# EAGLE library part SI4721 (library SparkFun-RF)
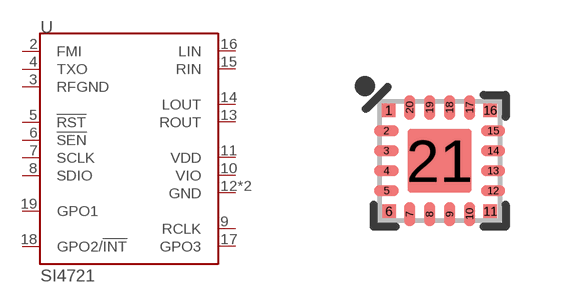
[diagram p9: symbol with the pads of QFN-20-3X3MM; footprint QFN-20-3X3MM]

Designator prefix U

## SI4721  [QFN-20-3X3MM]
2  FMI  in
3  RFGND  pwr
4  TXO
5  !RST  in
6  !SEN  in
7  SCLK  in
8  SDIO
9  RCLK  in
10  VIO  pwr
11  VDD  pwr
12  GND  pwr
13  ROUT  out
14  LOUT  out
15  RIN  in
16  LIN  in
17  GPO3  out
18  GPO2/!INT  out
19  GPO1  out
21  GND  pwr

## Footprint QFN-20-3X3MM (pad centres in mm)
20-Pin QFN Package 3 x 3 mm Used by Silicon Labs Si470x (Si4703, Si4707, etc.) FM Recievier Example Datasheet <https://cdn.sparkfun.com/assets/learn_tutorials/2/7/4/Si4703_datasheet.pdf>
smd 0.34 x 0.34: 1 -1.275,1.265; 6 -1.265,-1.265; 11 1.265,-1.265; 16 1.265,1.265
smd 0.61 x 0.28: 2 -1.335,0.75; 3 -1.335,0.25; 4 -1.335,-0.25; 5 -1.335,-0.75; 12 1.335,-0.75; 13 1.335,-0.25; 14 1.335,0.25; 15 1.335,0.75
smd 0.28 x 0.61: 7 -0.75,-1.335; 8 -0.25,-1.335; 9 0.25,-1.335; 10 0.75,-1.335; 17 0.75,1.335; 18 0.25,1.335; 19 -0.25,1.335; 20 -0.75,1.335
smd 1.6 x 1.6: 21 0,0